# Altium footprint library Passives.PcbLib: 25 footprints (part 2 of 2)
Each footprint in its own frame and in the unit in brackets; x right, y up, seen from the top. Pads: shape width x height; smd on the part's side, far side on the other; paste and mask are expansions set on the pad; w line width, h text height; cw(c..) or ccw(c..) is an arc to the next point about the centre after c.
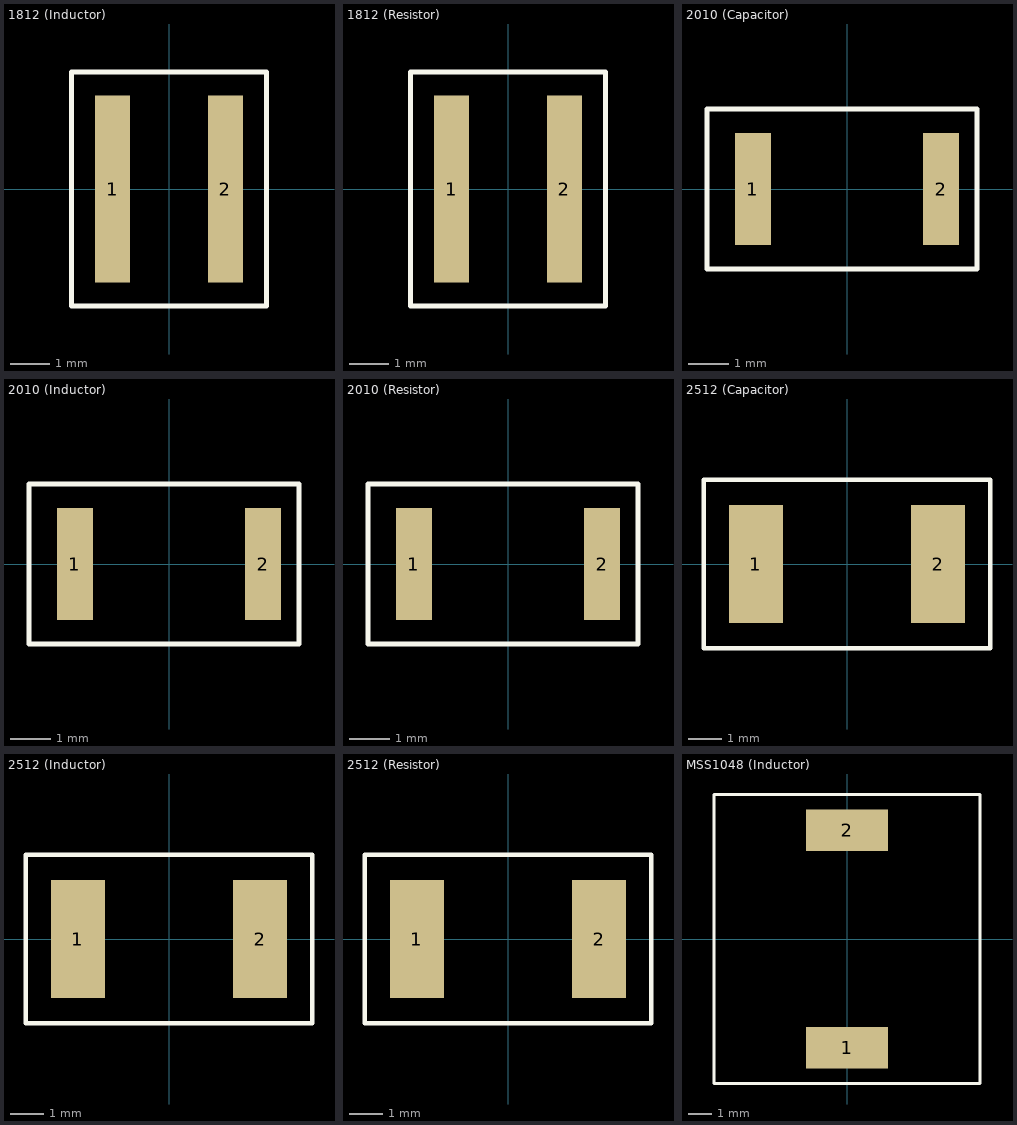
[diagram p1: the footprints below, top view; thin cyan lines are the x and y axes]

## 1812 (Inductor) [mm]
pads (2):
  rect 0.9x4.8 smd mask+0.05: 1(-1.45,0) 2(1.45,0)
Top Overlay:
  lines w0.127: -2.5,-3 -2.5,3 2.5,3 2.5,-3 -2.5,-3
3D body: height 0.25, standoff 0.05, extent -1.6,-2.3 1.6,2.3

## 1812 (Resistor) [mm]
pads (2):
  rect 0.9x4.8 smd mask+0.05: 1(-1.45,0) 2(1.45,0)
Top Overlay:
  lines w0.127: -2.5,-3 2.5,-3 2.5,3 -2.5,3 -2.5,-3
3D body: height 0.25, standoff 0.05, extent -1.6,-2.3 1.6,2.3

## 2010 (Capacitor) [mm]
pads (2):
  rect 0.9x2.8 smd mask+0.05: 1(-2.35,0) 2(2.35,0)
Top Overlay:
  lines w0.127: -3.5,-2 3.25,-2 3.25,2 -3.5,2 -3.5,-2
3D body: height 0.25, standoff 0.05, extent -2.5,-1.25 2.5,1.25

## 2010 (Inductor) [mm]
pads (2):
  rect 0.9x2.8 smd mask+0.05: 1(-2.35,0) 2(2.35,0)
Top Overlay:
  lines w0.127: -3.5,-2 -3.5,2 3.25,2 3.25,-2 -3.5,-2
3D body: height 0.25, standoff 0.05, extent -2.5,-1.25 2.5,1.25

## 2010 (Resistor) [mm]
pads (2):
  rect 0.9x2.8 smd mask+0.05: 1(-2.35,0) 2(2.35,0)
Top Overlay:
  lines w0.127: -3.5,-2 -3.5,2 3.25,2 3.25,-2 -3.5,-2
3D body: height 0.25, standoff 0.05, extent -2.5,-1.25 2.5,1.25

## 2512 (Capacitor) [mm]
pads (2):
  rect 1.6x3.5 smd mask+0.05: 1(-2.7,0) 2(2.7,0)
Top Overlay:
  lines w0.127: -4.25,-2.5 -4.25,2.5 4.25,2.5 4.25,-2.5 -4.25,-2.5
3D body: height 0.25, standoff 0.05, extent -3.15,-1.6 3.15,1.6

## 2512 (Inductor) [mm]
pads (2):
  rect 1.6x3.5 smd mask+0.05: 1(-2.7,0) 2(2.7,0)
Top Overlay:
  lines w0.127: -4.25,-2.5 4.25,-2.5 4.25,2.5 -4.25,2.5 -4.25,-2.5
3D body: height 0.25, standoff 0.05, extent -3.15,-1.6 3.15,1.6

## 2512 (Resistor) [mm]
pads (2):
  rect 1.6x3.5 smd mask+0.05: 1(-2.7,0) 2(2.7,0)
Top Overlay:
  lines w0.127: -4.25,-2.5 -4.25,2.5 4.25,2.5 4.25,-2.5 -4.25,-2.5
3D body: height 0.25, standoff 0.05, extent -3.15,-1.6 3.15,1.6

## MSS1048 (Inductor) [mm] "CoilCraft MSS1048 Series Inductor"
pads (2):
  rect 3.56x1.78 smd: 1(0,-4.7) 2(0,4.7)
Top Overlay:
  lines w0.127: -5.75,-6.25 5.75,-6.25 5.75,6.25 -5.75,6.25 -5.75,-6.25
3D body "MSS1048.STEP": height 5, standoff -0.1, extent -5.1,-5.15 5.1,5.15